# Altium footprint library M.2封装.PcbLib: 4 footprints
Each footprint in its own frame and in the unit in brackets; x right, y up, seen from the top. Pads: shape width x height; smd on the part's side, far side on the other; paste and mask are expansions set on the pad; w line width, h text height; cw(c..) or ccw(c..) is an arc to the next point about the centre after c.
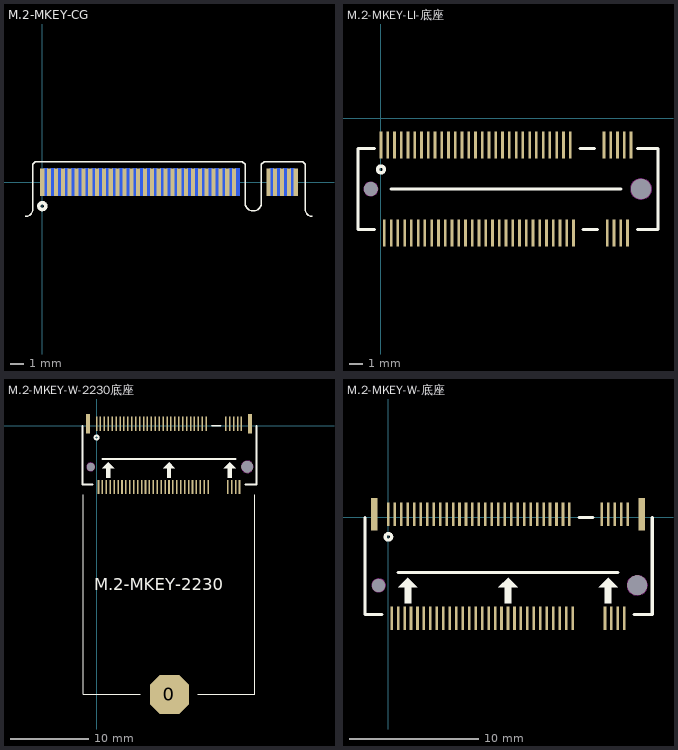
[diagram p0: the footprints below, top view; thin cyan lines are the x and y axes]

## M.2-MKEY-CG [mm] "公头通用"
pads (67):
  rect 0.3x2 smd: 1(0,0) 3(0.5,0) 5(1,0) 7(1.5,0) 9(2,0) 11(2.5,0) 13(3,0) 15(3.5,0) 17(4,0) 19(4.5,0) 21(5,0) 23(5.5,0) 25(6,0) 27(6.5,0) 29(7,0) 31(7.5,0) 33(8,0) 35(8.5,0) 37(9,0) 39(9.5,0) 41(10,0) 43(10.5,0) 45(11,0) 47(11.5,0) 49(12,0) 51(12.5,0) 53(13,0) 55(13.5,0) 57(14,0) 59(16.5,0) 61(17,0) 63(17.5,0) 65(18,0) 67(18.5,0)
  rect 0.3x2 smd far side: 2(0.25,0) 4(0.75,0) 6(1.25,0) 8(1.75,0) 10(2.25,0) 12(2.75,0) 14(3.25,0) 16(3.75,0) 18(4.25,0) 20(4.75,0) 22(5.25,0) 24(5.75,0) 26(6.25,0) 28(6.75,0) 30(7.25,0) 32(7.75,0) 34(8.25,0) 36(8.75,0) 38(9.25,0) 40(9.75,0) 42(10.25,0) 44(10.75,0) 46(11.25,0) 48(11.75,0) 50(12.25,0) 52(12.75,0) 54(13.25,0) 56(13.75,0) 58(14.25,0) 60(16.75,0) 62(17.25,0) 64(17.75,0) 66(18.25,0)
Top Overlay:
  circle w0.254: c0,-1.75 r0.25
  lines w0.1: -1.25,-2.5 -1.2,-2.5 ccw(c-1.2,-2) -0.7,-2 -0.7,1.3 -0.5,1.5 14.6,1.5 14.8,1.3 14.8,-1.463 ; 14.8,-1.4 14.8,-1.5 ccw(c15.4,-1.5) 16,-1.5 16,-1.4 ; 16,-1.475 16,1.3 16.2,1.5 19,1.5 19.2,1.3 19.2,-2 ccw(c19.7,-2) 19.7,-2.5 19.725,-2.5

## M.2-MKEY-LI-底座 [mm] "立式"
pads (67):
  rect 0.2x2 smd: 1(0,-2) 2(0.25,-8.5) 3(0.5,-2) 4(0.75,-8.5) 5(1,-2) 6(1.25,-8.5) 7(1.5,-2) 8(1.75,-8.5) 9(2,-2) 10(2.25,-8.5) 11(2.5,-2) 12(2.75,-8.5) 13(3,-2) 14(3.25,-8.5) 15(3.5,-2) 16(3.75,-8.5) 17(4,-2) 18(4.25,-8.5) 19(4.5,-2) 20(4.75,-8.5) 21(5,-2) 22(5.25,-8.5) 23(5.5,-2) 24(5.75,-8.5) 25(6,-2) 26(6.25,-8.5) 27(6.5,-2) 28(6.75,-8.5) 29(7,-2) 30(7.25,-8.5) 31(7.5,-2) 32(7.75,-8.5) 33(8,-2) 34(8.25,-8.5) 35(8.5,-2) 36(8.75,-8.5) 37(9,-2) 38(9.25,-8.5) 39(9.5,-2) 40(9.75,-8.5) 41(10,-2) 42(10.25,-8.5) 43(10.5,-2) 44(10.75,-8.5) 45(11,-2) 46(11.25,-8.5) 47(11.5,-2) 48(11.75,-8.5) 49(12,-2) 50(12.25,-8.5) 51(12.5,-2) 52(12.75,-8.5) 53(13,-2) 54(13.25,-8.5) 55(13.5,-2) 56(13.75,-8.5) 57(14,-2) 58(14.25,-8.5) 59(16.5,-2) 60(16.75,-8.5) 61(17,-2) 62(17.25,-8.5) 63(17.5,-2) 64(17.75,-8.5) 65(18,-2) 66(18.25,-8.5) 67(18.5,-2)
via 19.25,-5.25 diameter 1.5 hole 1.5
via -0.75,-5.25 diameter 1 hole 1
Top Overlay:
  circle w0.254: c0,-3.8 r0.25
  lines w0.25: -0.5,-8.25 -1.7,-8.25 -1.7,-2.25 -0.5,-2.25 ; 0.75,-5.25 17.75,-5.25 ; 14.75,-2.25 15.8,-2.25 ; 14.95,-8.25 16,-8.25 ; 19,-8.25 20.5,-8.25 20.5,-2.25 19,-2.25
Keep-Out Layer:
  circle w0.1: c-0.75,-5.25 r0.5
  circle w0.1: c19.25,-5.25 r0.75

## M.2-MKEY-W-2230底座 [mm] "2230底座"
pads (70):
  rect 0.5x2.5 smd: 0(-1.1,0.25) 0(19.6,0.25)
  oct 5x5 smd: 0(9.3,-34.3)
  rect 0.2x1.8 smd: 1(0,0.25) 2(0.25,-7.8) 3(0.5,0.25) 4(0.75,-7.8) 5(1,0.25) 6(1.25,-7.8) 7(1.5,0.25) 8(1.75,-7.8) 9(2,0.25) 10(2.25,-7.8) 11(2.5,0.25) 12(2.75,-7.8) 13(3,0.25) 14(3.25,-7.8) 15(3.5,0.25) 16(3.75,-7.8) 17(4,0.25) 18(4.25,-7.8) 19(4.5,0.25) 20(4.75,-7.8) 21(5,0.25) 22(5.25,-7.8) 23(5.5,0.25) 24(5.75,-7.8) 25(6,0.25) 26(6.25,-7.8) 27(6.5,0.25) 28(6.75,-7.8) 29(7,0.25) 30(7.25,-7.8) 31(7.5,0.25) 32(7.75,-7.8) 33(8,0.25) 34(8.25,-7.8) 35(8.5,0.25) 36(8.75,-7.8) 37(9,0.25) 38(9.25,-7.8) 39(9.5,0.25) 40(9.75,-7.8) 41(10,0.25) 42(10.25,-7.8) 43(10.5,0.25) 44(10.75,-7.8) 45(11,0.25) 46(11.25,-7.8) 47(11.5,0.25) 48(11.75,-7.8) 49(12,0.25) 50(12.25,-7.8) 51(12.5,0.25) 52(12.75,-7.8) 53(13,0.25) 54(13.25,-7.8) 55(13.5,0.25) 56(13.75,-7.8) 57(14,0.25) 58(14.25,-7.8) 59(16.5,0.25) 60(16.75,-7.8) 61(17,0.25) 62(17.25,-7.8) 63(17.5,0.25) 64(17.75,-7.8) 65(18,0.25) 66(18.25,-7.8) 67(18.5,0.25)
via 19.25,-5.25 diameter 1.5 hole 1.5
via -0.75,-5.25 diameter 1 hole 1
Top Overlay:
  circle w0.254: c0,-1.5 r0.25
  region: 17.25,-5.4 16.75,-5.4 16.75,-6.65 17.25,-6.65
  region: 17,-4.65 17.75,-5.4 16.25,-5.4
  region: 1.25,-5.4 1.75,-5.4 1.75,-6.65 1.25,-6.65
  region: 1.5,-4.65 0.75,-5.4 2.25,-5.4
  region: 9,-5.4 9.5,-5.4 9.5,-6.65 9,-6.65
  region: 9.25,-4.65 8.5,-5.4 10,-5.4
  lines w0.1: -1.7,-8.8 -1.7,-34.3 -1.3,-34.3 5.6,-34.3 ; 20.2,-8.8 20.2,-34.3 ; 20.2,-34.3 12.9,-34.3 20.2,-34.3
  lines w0.25: -1.8,0 -1.8,-7.5 -0.5,-7.5 ; 0.75,-4.25 17.75,-4.25 ; 14.75,0 15.8,0 ; 19,-7.5 20.4,-7.5 20.4,0
  text "M.2-MKEY-2230" at -0.3,-21 h1.52
Keep-Out Layer:
  circle w0.1: c-0.75,-5.25 r0.5
  circle w0.1: c19.25,-5.25 r0.75

## M.2-MKEY-W-底座 [mm] "卧式"
pads (69):
  rect 0.5x2.5 smd: 0(-1.1,0.25) 0(19.6,0.25)
  rect 0.2x1.8 smd: 1(0,0.25) 2(0.25,-7.8) 3(0.5,0.25) 4(0.75,-7.8) 5(1,0.25) 6(1.25,-7.8) 7(1.5,0.25) 8(1.75,-7.8) 9(2,0.25) 10(2.25,-7.8) 11(2.5,0.25) 12(2.75,-7.8) 13(3,0.25) 14(3.25,-7.8) 15(3.5,0.25) 16(3.75,-7.8) 17(4,0.25) 18(4.25,-7.8) 19(4.5,0.25) 20(4.75,-7.8) 21(5,0.25) 22(5.25,-7.8) 23(5.5,0.25) 24(5.75,-7.8) 25(6,0.25) 26(6.25,-7.8) 27(6.5,0.25) 28(6.75,-7.8) 29(7,0.25) 30(7.25,-7.8) 31(7.5,0.25) 32(7.75,-7.8) 33(8,0.25) 34(8.25,-7.8) 35(8.5,0.25) 36(8.75,-7.8) 37(9,0.25) 38(9.25,-7.8) 39(9.5,0.25) 40(9.75,-7.8) 41(10,0.25) 42(10.25,-7.8) 43(10.5,0.25) 44(10.75,-7.8) 45(11,0.25) 46(11.25,-7.8) 47(11.5,0.25) 48(11.75,-7.8) 49(12,0.25) 50(12.25,-7.8) 51(12.5,0.25) 52(12.75,-7.8) 53(13,0.25) 54(13.25,-7.8) 55(13.5,0.25) 56(13.75,-7.8) 57(14,0.25) 58(14.25,-7.8) 59(16.5,0.25) 60(16.75,-7.8) 61(17,0.25) 62(17.25,-7.8) 63(17.5,0.25) 64(17.75,-7.8) 65(18,0.25) 66(18.25,-7.8) 67(18.5,0.25)
via 19.25,-5.25 diameter 1.5 hole 1.5
via -0.75,-5.25 diameter 1 hole 1
Top Overlay:
  circle w0.254: c0,-1.5 r0.25
  region: 17.25,-5.4 16.75,-5.4 16.75,-6.65 17.25,-6.65
  region: 17,-4.65 17.75,-5.4 16.25,-5.4
  region: 1.25,-5.4 1.75,-5.4 1.75,-6.65 1.25,-6.65
  region: 1.5,-4.65 0.75,-5.4 2.25,-5.4
  region: 9,-5.4 9.5,-5.4 9.5,-6.65 9,-6.65
  region: 9.25,-4.65 8.5,-5.4 10,-5.4
  lines w0.25: -1.8,0 -1.8,-7.5 -0.5,-7.5 ; 0.75,-4.25 17.75,-4.25 ; 14.75,0 15.8,0 ; 19,-7.5 20.4,-7.5 20.4,0
Keep-Out Layer:
  circle w0.1: c-0.75,-5.25 r0.5
  circle w0.1: c19.25,-5.25 r0.75